# EAGLE library part ECOG (library eCogs)
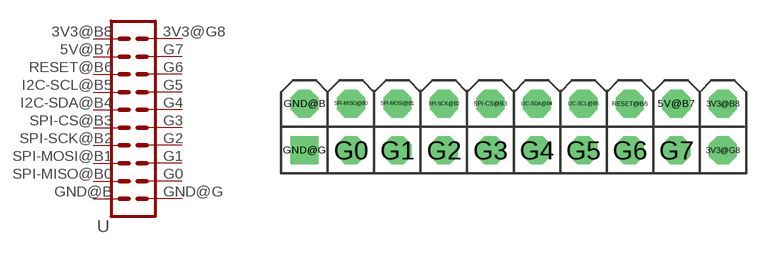
[diagram p0: symbol with the pads of ECOG; footprint ECOG]

Designator prefix -

## ECOGECOG_SLOT  [ECOG]
3V3@B8  3V3  pas
3V3@G8  3V3  pas
5V@B7  5V  pas
G0  G0  pas
G1  G1  pas
G2  G2  pas
G3  G3  pas
G4  G4  pas
G5  G5  pas
G6  G6  pas
G7  G7  pas
GND@B  GND  pas
GND@G  GND  pas
I2C-SCL@B5  I2C-SCL  pas
I2C-SDA@B4  I2C-SDA  pas
RESET@B6  RESET  pas
SPI-CS@B3  SPI-CS  pas
SPI-MISO@B0  SPI-MISO  pas
SPI-MOSI@B1  SPI-MOSI  pas
SPI-SCK@B2  SPI-SCK  pas

## Footprint ECOG (pad centres in mm)
drill 1.016 octagon: 3V3@B8 21.59,3.81; 3V3@G8 21.59,1.27; 5V@B7 19.05,3.81; G0 1.27,1.27; G1 3.81,1.27; G2 6.35,1.27; G3 8.89,1.27; G4 11.43,1.27; G5 13.97,1.27; G6 16.51,1.27; G7 19.05,1.27; GND@B -1.27,3.81; I2C-SCL@B5 13.97,3.81; I2C-SDA@B4 11.43,3.81; RESET@B6 16.51,3.81; SPI-CS@B3 8.89,3.81; SPI-MISO@B0 1.27,3.81; SPI-MOSI@B1 3.81,3.81; SPI-SCK@B2 6.35,3.81
drill 1.016 square: GND@G -1.27,1.27